# Altium footprint library 矩形板V6.0(可制造).PcbLib: 35 footprints (part 3 of 3)
Each footprint in its own frame and in the unit in brackets; x right, y up, seen from the top. Pads: shape width x height; smd on the part's side, far side on the other; paste and mask are expansions set on the pad; w line width, h text height; cw(c..) or ccw(c..) is an arc to the next point about the centre after c.
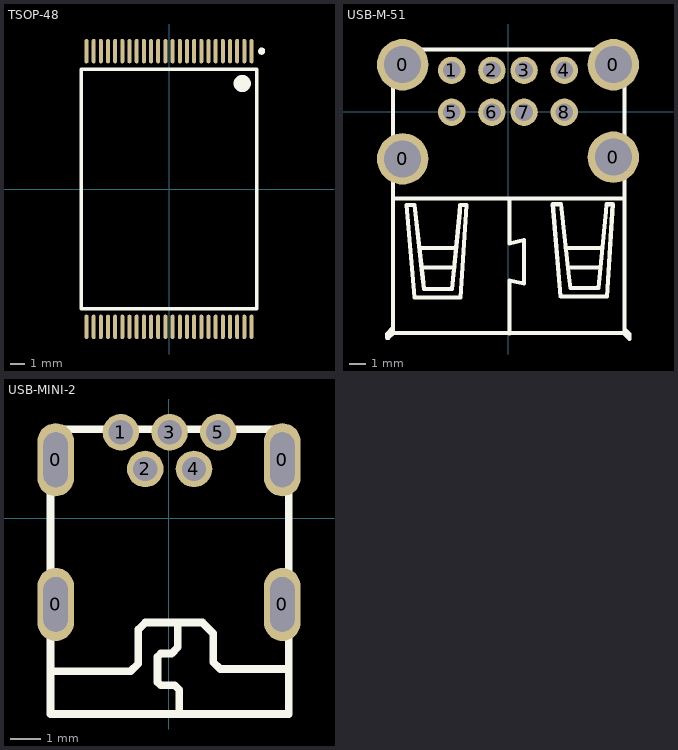
[diagram p2: the footprints below, top view; thin cyan lines are the x and y axes]

## TSOP-48 [mm]
pads (48):
  oval 0.28x1.696 smd: 1(5.75,9.6) 2(5.25,9.6) 3(4.75,9.6) 4(4.25,9.6) 5(3.75,9.6) 6(3.25,9.6) 7(2.75,9.6) 8(2.25,9.6) 9(1.75,9.6) 10(1.25,9.6) 11(0.75,9.6) 12(0.25,9.6) 13(-0.25,9.6) 14(-0.75,9.6) 15(-1.25,9.6) 16(-1.75,9.6) 17(-2.25,9.6) 18(-2.75,9.6) 19(-3.25,9.6) 20(-3.75,9.6) 21(-4.25,9.6) 22(-4.75,9.6) 23(-5.25,9.6) 24(-5.75,9.6) 25(-5.75,-9.6) 26(-5.25,-9.6) 27(-4.75,-9.6) 28(-4.25,-9.6) 29(-3.75,-9.6) 30(-3.25,-9.6) 31(-2.75,-9.6) 32(-2.25,-9.6) 33(-1.75,-9.6) 34(-1.25,-9.6) 35(-0.75,-9.6) 36(-0.25,-9.6) 37(0.25,-9.6) 38(0.75,-9.6) 39(1.25,-9.6) 40(1.75,-9.6) 41(2.25,-9.6) 42(2.75,-9.6) 43(3.25,-9.6) 44(3.75,-9.6) 45(4.25,-9.6) 46(4.75,-9.6) 47(5.25,-9.6) 48(5.75,-9.6)
Top Overlay:
  lines w0.25: 6.576,9.599 cw(c6.451,9.6) 6.576,9.601
  lines w0.254: -6.1,-8.35 -6.1,8.35 6.1,8.35 6.1,-8.35 -6.1,-8.35
  lines w0.6: 5.4,7.346 cw(c5.1,7.348) 5.4,7.351

## USB-M-51 [mm]
pads (12):
  round 3.2 hole 2.3: 0(-6.551,-2.925) 0(-6.551,2.925) 0(6.551,-2.826) 0(6.551,2.925)
  round 1.7 hole 1.1: 1(-3.5,2.574) 2(-1.001,2.574) 3(1.001,2.574) 4(3.5,2.574) 5(-3.5,-0.027) 6(-1.001,-0.027) 7(1.001,-0.027) 8(3.5,-0.027)
Top Overlay:
  lines w0.254: -7.168,-13.447 -7.518,-13.807 -7.518,-14.047 -7.418,-14.047 -7.128,-13.757 7.172,-13.757 7.542,-14.127 7.542,-13.807 7.242,-13.507 ; -7.158,-13.797 -7.158,2.603 ; -7.158,-5.389 7.242,-5.389 ; -7.153,3.874 7.247,3.874 ; -5.509,-8.48 -3.249,-8.48 ; -5.369,-9.69 -3.339,-9.69 ; 0.082,-5.387 0.082,-8.187 1.002,-7.967 1.002,-10.687 0.083,-10.487 0.083,-13.768 ; 3.59,-8.46 5.85,-8.46 ; 3.73,-9.671 5.76,-9.671 ; 7.242,-13.807 7.242,2.593 ; -6.319,-5.801 -5.811,-5.804 -5.3,-10.345 -5.225,-11.023 -3.475,-11.012 -3.001,-6.234 -2.971,-5.804 -2.591,-5.804 -2.941,-11.547 -5.824,-11.536 -6.319,-5.801 ; 2.782,-5.747 3.291,-5.751 3.801,-10.291 3.876,-10.969 5.626,-10.959 6.1,-6.18 6.13,-5.75 6.51,-5.75 6.16,-11.493 3.277,-11.482 2.782,-5.747

## USB-MINI-2 [mm]
pads (9):
  oval 1.2x2.4 hole 0.8 slot 1.8 at 90 deg copper offset 0,0: 0(-3.72,-2.826) 0(-3.72,1.924)
  oval 1.2x2.4 hole 0.8 slot 1.8 at 90 deg copper offset -0.001,0: 0(3.72,-2.826) 0(3.72,1.924)
  round 1.2 hole 0.8: 1(-1.58,2.826) 2(-0.78,1.622) 3(0.02,2.826) 4(0.82,1.622) 5(1.62,2.826)
Top Overlay:
  lines w0.254: -3.854,-5.023 -1.263,-5.023 -1.009,-4.769 -1.009,-3.651 -0.78,-3.423 1.099,-3.423 1.455,-3.778 1.455,-4.718 1.683,-4.947 3.932,-4.947 ; 0.286,-3.423 0.286,-4.159 0.286,-4.235 0.083,-4.439 -0.272,-4.439 -0.374,-4.54 -0.374,-5.378 -0.272,-5.48 0.185,-5.48 0.337,-5.632 0.337,-6.267 ; 3.932,2.927 3.932,-6.423 -3.893,-6.423 -3.893,2.927 0.032,2.927 3.958,2.927